# Altium footprint library miniUSB.PcbLib: 1 footprints
Each footprint in its own frame and in the unit in brackets; x right, y up, seen from the top. Pads: shape width x height; smd on the part's side, far side on the other; paste and mask are expansions set on the pad; w line width, h text height; cw(c..) or ccw(c..) is an arc to the next point about the centre after c.
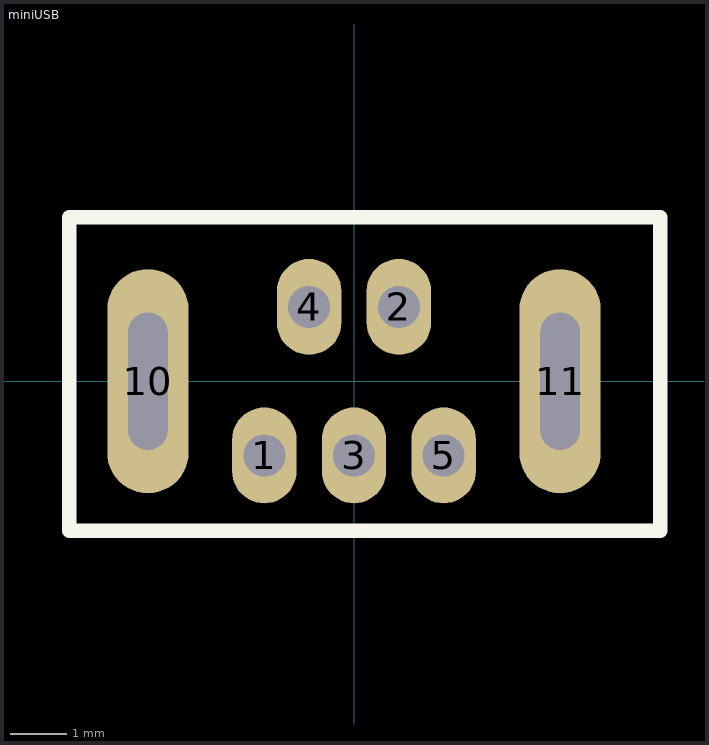
[diagram p0: the footprint, top view; thin cyan lines are the x and y axes]

## miniUSB [mm]
pads (7):
  oval 1.15x1.71 hole 0.75: 1(-1.6,-1.325) 2(0.8,1.325) 3(0,-1.325) 4(-0.8,1.325) 5(1.6,-1.325)
  oval 1.45x4 hole 0.7 slot 2.45 at 90 deg unplated: 10(-3.675,0) 11(3.675,0)
Top Overlay:
  lines w0.254: -5.08,-2.667 5.461,-2.667 5.461,2.921 -5.08,2.921 -5.08,-2.667
3D body "500075-1517.stp": height 9, standoff -0.8, extent -3.85,-2.3 3.85,2.4